# Altium footprint library JohansonTechnology.PcbLib: 4 footprints
Each footprint in its own frame and in the unit in brackets; x right, y up, seen from the top. Pads: shape width x height; smd on the part's side, far side on the other; paste and mask are expansions set on the pad; w line width, h text height; cw(c..) or ccw(c..) is an arc to the next point about the centre after c.
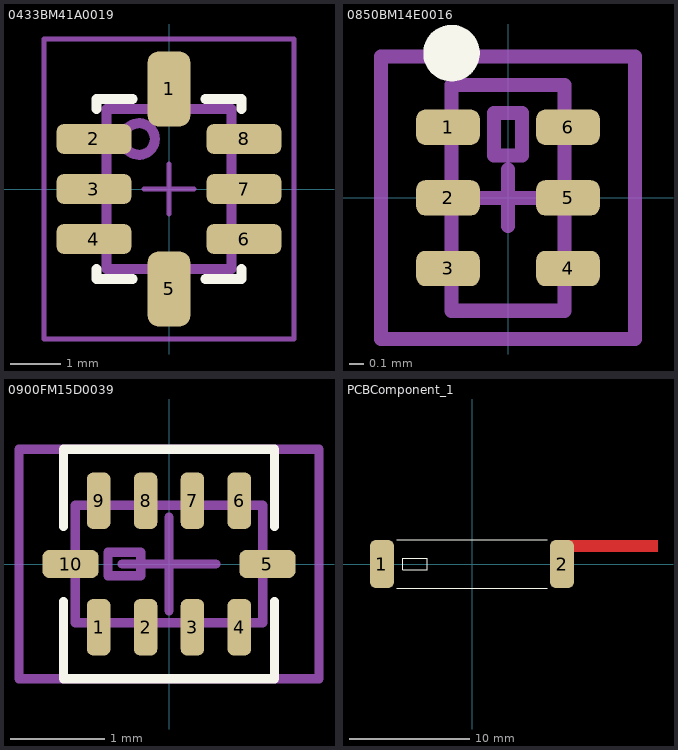
[diagram p0: the footprints below, top view; thin cyan lines are the x and y axes]

## 0433BM41A0019 [mm]
pads (8):
  rrect50% 0.85x1.5 smd: 1(0,2) 5(0,-2)
  rrect50% 1.5x0.6 smd: 2(-1.5,1) 3(-1.5,0) 4(-1.5,-1) 6(1.5,-1) 7(1.5,0) 8(1.5,1)
Top Overlay:
  lines w0.2: -1.45,-1.6 -1.45,-1.8 -0.725,-1.8 ; -1.45,1.6 -1.45,1.8 -0.725,1.8 ; 0.725,-1.8 1.45,-1.8 1.45,-1.6 ; 0.725,1.8 1.45,1.8 1.45,1.6
3D Top:
  circle w0.2: c-0.6,1 r0.316
  lines w0.2: -1.25,-1.6 -1.25,1.6 1.25,1.6 1.25,-1.6 -1.25,-1.6
Courtyard Top:
  lines w0.1: -0.5,0 0.5,0 ; 0,-0.5 0,0.5 ; -2.5,-3 -2.5,3 2.5,3 2.5,-3 -2.5,-3
3D body: height 1.6, standoff 1, extent -0.2,0.4 0.2,1.1
3D body: height 1.5, standoff 0, extent -1.25,-1.6 1.25,1.6

## 0850BM14E0016 [mm]
pads (6):
  rrect50% 0.45x0.25 smd: 1(-0.425,0.5) 2(-0.425,0) 3(-0.425,-0.5) 4(0.425,-0.5) 5(0.425,0) 6(0.425,0.5)
Top Overlay:
  circle w0.2: c-0.4,1.025 r0.1
3D Top:
  lines w0.1: -0.4,-0.8 -0.4,0.8 0.4,0.8 0.4,-0.8 -0.4,-0.8 ; -0.1,0.3 0.1,0.3 0.1,0.6 -0.1,0.6 -0.1,0.3
Courtyard Top:
  lines w0.1: -0.2,0 0.2,0 ; 0,-0.2 0,0.2 ; -0.9,-1 0.9,-1 0.9,1 -0.9,1 -0.9,-1
3D body: height 0.65, standoff 0, extent -0.1,0.3 0.1,0.6
3D body: height 0.6, standoff 0, extent -0.4,-0.8 0.4,0.8

## 0900FM15D0039 [mm]
height 0.8
pads (10):
  rrect50% 0.25x0.6 smd: 1(-0.75,-0.675) 2(-0.25,-0.675) 3(0.25,-0.675) 4(0.75,-0.675) 6(0.75,0.675) 7(0.25,0.675) 8(-0.25,0.675) 9(-0.75,0.675)
  rrect50% 0.6x0.3 smd: 5(1.05,0) 10(-1.05,0)
Top Overlay:
  lines w0.1: -1.125,-0.4 -1.125,-1.225 1.125,-1.225 1.125,-0.4 ; -1.125,0.4 -1.125,1.225 1.125,1.225 1.125,0.4
3D Top:
  lines w0.1: -1,-0.625 -1,0.625 1,0.625 1,-0.625 -1,-0.625 ; -0.65,-0.125 -0.3,-0.125 -0.3,0.125 -0.65,0.125 -0.65,-0.125
Courtyard Top:
  lines w0.1: -0.5,0 0.5,0 ; 0,-0.5 0,0.5 ; -1.6,-1.225 -1.6,1.225 1.6,1.225 1.6,-1.225 -1.6,-1.225
3D body: height 0.8, standoff 0, extent -1,-0.625 1,0.625
3D body: height 0.81, standoff 0, extent -1.025,-0.15 -0.825,0.15
3D body: height 0.81, standoff 0, extent -0.875,-0.65 -0.625,-0.45
3D body: height 0.81, standoff 0, extent -0.375,-0.65 -0.125,-0.45
3D body: height 0.81, standoff 0, extent 0.125,-0.65 0.375,-0.45
3D body: height 0.81, standoff 0, extent 0.625,-0.65 0.875,-0.45
3D body: height 0.81, standoff 0, extent 0.625,0.45 0.875,0.65
3D body: height 0.81, standoff 0, extent 0.125,0.45 0.375,0.65
3D body: height 0.81, standoff 0, extent -0.375,0.45 -0.125,0.65
3D body: height 0.81, standoff 0, extent -0.875,0.45 -0.625,0.65
3D body: height 0.81, standoff 0, extent 0.825,-0.15 1.025,0.15
3D body: height 0.81, standoff 0, extent -0.65,-0.175 -0.15,0.175

## PCBComponent_1 [mm]
pads (2):
  rrect50% 2x4 smd: 1(-7.5,0) 2(7.5,0)
Top Layer:
  rectangle: 8,1 15.5,2
Top Overlay:
  lines w0.1: -6.25,-2 6.25,-2 ; -6.25,2 6.25,2 ; -5.75,-0.5 -5.75,0.5 -3.75,0.5 -3.75,-0.5 -5.75,-0.5
3D body: height 1.6, standoff 1.4, extent -5.75,-0.5 -3.75,0.5
3D body: height 1.5, standoff 0, extent -6.75,-2 6.25,2
3D body: height 1.5, standoff 0, extent 6.25,-2 7.25,2
3D body: height 1.5, standoff 0, extent -7.75,-2 -6.75,2